# Altium schematic symbol library CNY74-4H.Schlib: 1 symbol
Pins are listed as number, name and electrical type; pins without a type are passive.

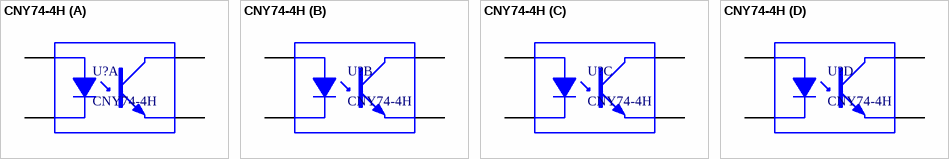
[diagram p0: symbol CNY74-4H]

## CNY74-4H
designator U?
part A pins: 1 A, 2 K, 15 C, 16 E
part B pins: 3 K, 4 A, 13 E, 14 C
part C pins: 5 A, 6 K, 11 C, 12 E
part D pins: 7 K, 8 A, 9 E, 10 C